# EAGLE library part FS8205 (library FS8205)
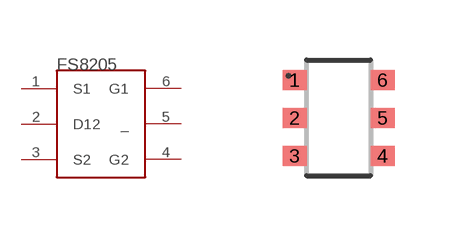
[diagram p0: symbol with the pads of SOT-23-6; footprint SOT-23-6]

Designator prefix -

## FS8205  [SOT-23-6]
1  S1
2  D12
3  S2
4  G2
5  _
6  G1

## Footprint SOT-23-6 (pad centres in mm)
smd 0.6 x 0.5: 1 -1.1,0.95; 2 -1.1,0; 3 -1.1,-0.95; 4 1.1,-0.95; 5 1.1,0; 6 1.1,0.95